# Altium footprint library SpecialisedSensor.PcbLib: 14 footprints
Each footprint in its own frame and in the unit in brackets; x right, y up, seen from the top. Pads: shape width x height; smd on the part's side, far side on the other; paste and mask are expansions set on the pad; w line width, h text height; cw(c..) or ccw(c..) is an arc to the next point about the centre after c.
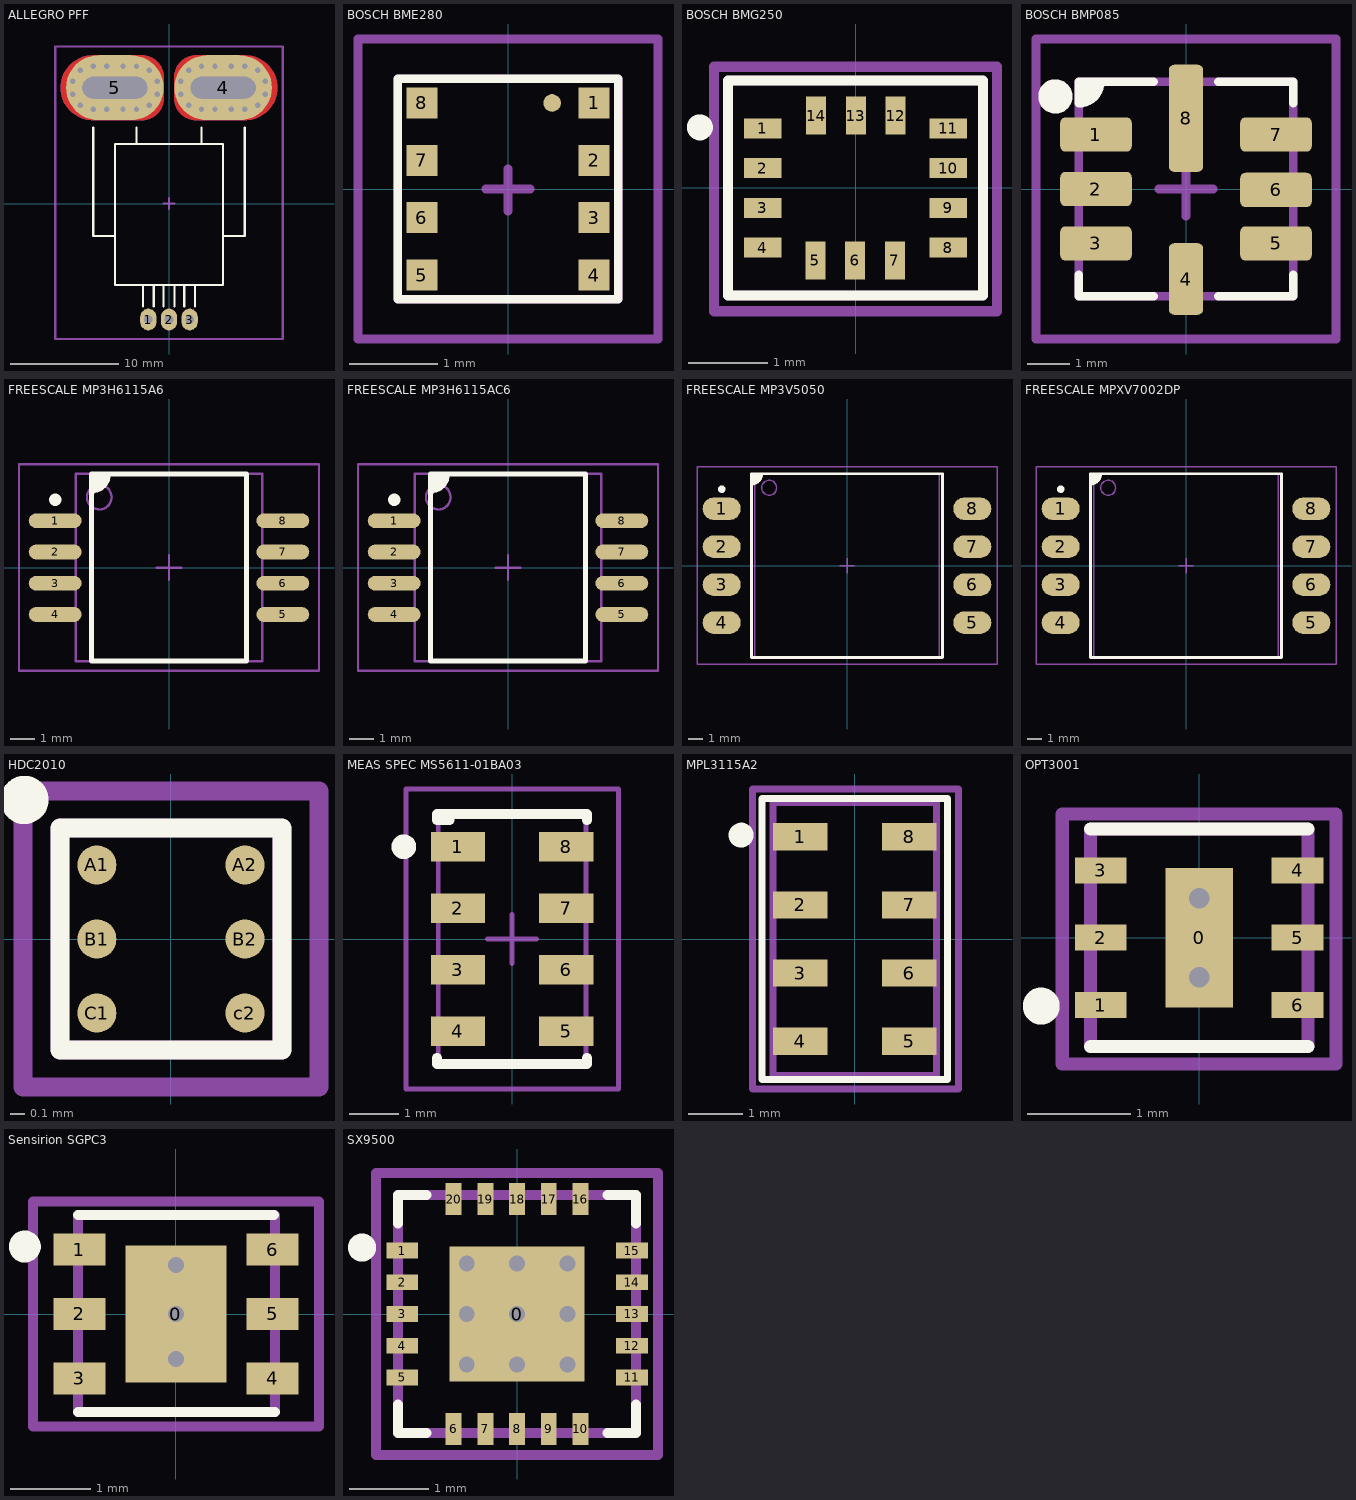
[diagram p0: the footprints below, top view; thin cyan lines are the x and y axes]

## ALLEGRO PFF [mm]
height 7
pads (5):
  oval 1.5x2 hole 0.8: 1(-1.91,-10.7) 2(0,-10.7) 3(1.91,-10.7)
  oval 9x6 hole 2 slot 6 at 0 deg: 4(5,10.7) 5(-5,10.7)
via 5.75,8.7 diameter 0.9 hole 0.5
via 4.25,8.7 diameter 0.9 hole 0.5
via 4.25,12.7 diameter 0.9 hole 0.5
via 7,12.7 diameter 0.9 hole 0.5
via 8.176,12.318 diameter 0.9 hole 0.5
via 8.902,11.318 diameter 0.9 hole 0.5
via 8.902,10.082 diameter 0.9 hole 0.5
via 8.176,9.082 diameter 0.9 hole 0.5
via 7,8.7 diameter 0.9 hole 0.5
via 3,8.7 diameter 0.9 hole 0.5
via 1.824,9.082 diameter 0.9 hole 0.5
via 1.098,10.082 diameter 0.9 hole 0.5
via 1.098,11.318 diameter 0.9 hole 0.5
via 1.824,12.318 diameter 0.9 hole 0.5
via 3,12.7 diameter 0.9 hole 0.5
via 5.75,12.7 diameter 0.9 hole 0.5
via -4.25,8.7 diameter 0.9 hole 0.5
via -5.75,8.7 diameter 0.9 hole 0.5
via -5.75,12.7 diameter 0.9 hole 0.5
via -3,12.7 diameter 0.9 hole 0.5
via -1.824,12.318 diameter 0.9 hole 0.5
via -1.098,11.318 diameter 0.9 hole 0.5
via -1.098,10.082 diameter 0.9 hole 0.5
via -1.824,9.082 diameter 0.9 hole 0.5
via -3,8.7 diameter 0.9 hole 0.5
via -7,8.7 diameter 0.9 hole 0.5
via -8.176,9.082 diameter 0.9 hole 0.5
via -8.902,10.082 diameter 0.9 hole 0.5
via -8.902,11.318 diameter 0.9 hole 0.5
via -8.176,12.318 diameter 0.9 hole 0.5
via -7,12.7 diameter 0.9 hole 0.5
via -4.25,12.7 diameter 0.9 hole 0.5
Top Layer:
  region: -7,13.7 -7.197,13.7 -7.587,13.649 -7.966,13.547 -8.33,13.396 -8.67,13.2 -8.982,12.96 -9.26,12.682 -9.5,12.37 -9.696,12.03 -9.847,11.666 -9.949,11.287 -10,10.897 -10,10.7 -10,10.503 -9.949,10.113 -9.847,9.734 -9.696,9.37 -9.5,9.03 -9.26,8.718 -8.982,8.44 -8.67,8.2 -8.33,8.004 -7.966,7.853 -7.587,7.751 -7.197,7.7 -7,7.7 -2.5,7.7 -2.303,7.7 -1.917,7.777 -1.553,7.928 -1.225,8.146 -0.946,8.425 -0.728,8.753 -0.577,9.117 -0.5,9.503 -0.5,9.7 -0.5,11.7 -0.5,11.897 -0.577,12.283 -0.728,12.647 -0.946,12.975 -1.225,13.254 -1.553,13.472 -1.917,13.623 -2.303,13.7 -2.5,13.7
  region: 7,13.7 7.197,13.7 7.587,13.649 7.966,13.547 8.33,13.396 8.67,13.2 8.982,12.96 9.26,12.682 9.5,12.37 9.696,12.03 9.847,11.666 9.949,11.287 10,10.897 10,10.7 10,10.503 9.949,10.113 9.847,9.734 9.696,9.37 9.5,9.03 9.26,8.718 8.982,8.44 8.67,8.2 8.33,8.004 7.966,7.853 7.587,7.751 7.197,7.7 7,7.7 2.5,7.7 2.303,7.7 1.917,7.777 1.553,7.928 1.225,8.146 0.946,8.425 0.728,8.753 0.577,9.117 0.5,9.503 0.5,9.7 0.5,11.7 0.5,11.897 0.577,12.283 0.728,12.647 0.946,12.975 1.225,13.254 1.553,13.472 1.917,13.623 2.303,13.7 2.5,13.7
Bottom Layer:
  region: -7,13.7 -7.197,13.7 -7.587,13.649 -7.966,13.547 -8.33,13.396 -8.67,13.2 -8.982,12.96 -9.26,12.682 -9.5,12.37 -9.696,12.03 -9.847,11.666 -9.949,11.287 -10,10.897 -10,10.7 -10,10.503 -9.949,10.113 -9.847,9.734 -9.696,9.37 -9.5,9.03 -9.26,8.718 -8.982,8.44 -8.67,8.2 -8.33,8.004 -7.966,7.853 -7.587,7.751 -7.197,7.7 -7,7.7 -2.5,7.7 -2.303,7.7 -1.917,7.777 -1.553,7.928 -1.225,8.146 -0.946,8.425 -0.728,8.753 -0.577,9.117 -0.5,9.503 -0.5,9.7 -0.5,11.7 -0.5,11.897 -0.577,12.283 -0.728,12.647 -0.946,12.975 -1.225,13.254 -1.553,13.472 -1.917,13.623 -2.303,13.7 -2.5,13.7
  region: 7,13.7 7.197,13.7 7.587,13.649 7.966,13.547 8.33,13.396 8.67,13.2 8.982,12.96 9.26,12.682 9.5,12.37 9.696,12.03 9.847,11.666 9.949,11.287 10,10.897 10,10.7 10,10.503 9.949,10.113 9.847,9.734 9.696,9.37 9.5,9.03 9.26,8.718 8.982,8.44 8.67,8.2 8.33,8.004 7.966,7.853 7.587,7.751 7.197,7.7 7,7.7 2.5,7.7 2.303,7.7 1.917,7.777 1.553,7.928 1.225,8.146 0.946,8.425 0.728,8.753 0.577,9.117 0.5,9.503 0.5,9.7 0.5,11.7 0.5,11.897 0.577,12.283 0.728,12.647 0.946,12.975 1.225,13.254 1.553,13.472 1.917,13.623 2.303,13.7 2.5,13.7
Top Overlay:
  lines w0.2: -7,7 -7,-3 -5,-3 ; -3,5.5 -3,7 ; -2.41,-9.5 -2.41,-7.5 ; -1.41,-9.5 -1.41,-7.5 ; -0.5,-9.5 -0.5,-7.5 ; 0.5,-9.5 0.5,-7.5 ; 1.41,-9.5 1.41,-7.5 ; 2.41,-9.5 2.41,-7.5 ; 3,5.5 3,7 ; 5,-3 7,-3 7,7 ; -5,-7.5 5,-7.5 5,5.5 -5,5.5 -5,-7.5
Mechanical 15:
  lines w0.2: -0.5,0 0.5,0 ; 0,-0.5 0,0.5 ; -10.5,-12.5 -10.5,14.5 10.5,14.5 10.5,-12.5 -10.5,-12.5
3D body "Allegro PFF.STEP": height 7, standoff -3.52, extent -7,-11.086 7,11.5

## BOSCH BME280 [mm] "Bosch BME280 digital pressure sensor"
height 0.93
pads (9):
  rect 0.35x0.35 smd: 1(0.975,0.975) 2(0.975,0.325) 3(0.975,-0.325) 4(0.975,-0.975) 5(-0.975,-0.975) 6(-0.975,-0.325) 7(-0.975,0.325) 8(-0.975,0.975)
  round 0.2 smd: ""(0.5,0.975)
Top Overlay:
  lines w0.1: -1.25,-1.25 1.25,-1.25 1.25,1.25 -1.25,1.25 -1.25,-1.25
Mechanical 13:
  lines w0.1: -1.25,-1.25 -1.25,1.25 1.25,1.25 1.25,-1.25 -1.25,-1.25
Mechanical 15:
  lines w0.1: -0.25,0 0.25,0 ; 0,-0.25 0,0.225 ; -1.7,-1.7 -1.7,1.7 1.7,1.7 1.7,-1.7 -1.7,-1.7
3D body "User Library-Bosch_BME280 (1).step": height 0.93, standoff 0, extent -1.25,-1.25 1.25,1.25

## BOSCH BMG250 [mm]
pads (14):
  rect 0.475x0.25 smd mask+0.051: 1(-1.165,0.75) 2(-1.165,0.25) 3(-1.165,-0.25) 4(-1.165,-0.75) 8(1.165,-0.75) 9(1.165,-0.25) 10(1.165,0.25) 11(1.165,0.75)
  rect 0.25x0.475 smd mask+0.051: 5(-0.505,-0.91) 6(-0.005,-0.91) 7(0.495,-0.91) 12(0.505,0.91) 13(0.005,0.91) 14(-0.495,0.91)
Top Overlay:
  lines w0.127: -1.6,-1.35 -1.6,1.35 1.604,1.35 1.604,-1.35 -1.6,-1.35
  lines w0.254: -1.927,0.784 ccw(c-1.956,0.762) -1.92,0.762
Mechanical 13:
  lines w0.127: -1.6,-1.35 -1.6,1.35 1.604,1.35 1.604,-1.35 -1.6,-1.35
Mechanical 15:
  lines w0.127: -1.778,-1.549 1.778,-1.549 1.778,1.524 -1.778,1.524 -1.778,-1.549

## BOSCH BMP085 [mm] "Bosch BMP085 digital pressure sensor"
height 1.2
pads (8):
  rrect30% 1.67x0.8 smd: 1(-2.1,1.27) 2(-2.1,0) 3(-2.1,-1.27) 5(2.1,-1.27) 6(2.1,-0.02) 7(2.1,1.27)
  rrect30% 0.8x1.67 smd: 4(0,-2.1)
  rrect30% 0.8x2.5 smd: 8(0,1.65)
Top Overlay:
  circle w0.4: c-3.048,2.159 r0.2
  region: -2.5,2.5 -2.032,2.5 -2.032,2.286 -2.286,2.032 -2.5,2.032
  lines w0.2: -2.5,-2 -2.5,-2.5 -0.75,-2.5 ; -2,2.5 cw(c-2.5,2.5) -2.5,2 -2.5,2.5 -0.75,2.5 ; 0.75,-2.5 2.5,-2.5 2.5,-2 ; 0.75,2.5 2.5,2.5 2.5,2
Mechanical 1:
  lines w0.2: -2.5,-2.5 -2.5,2.5 2.5,2.5 2.5,-2.5 -2.5,-2.5
Mechanical 15:
  lines w0.2: -0.635,0 0.635,0 ; 0,-0.635 0,0.635 ; -3.5,-3.5 3.5,-3.5 3.5,3.5 -3.5,3.5 -3.5,-3.5
3D body "BMP085.STEP": height 1.2, standoff 0, extent -2.5,-2.5 2.5,2.5

## FREESCALE MP3H6115A6 [mm] "SOIC, 8-Leads, Body 7.6x7.6mm (max), Pitch 1.27mm, IPC Medium Density"
height 4.191
pads (8):
  oval 2.15x0.6 smd: 1(-4.625,1.905) 2(-4.625,0.635) 3(-4.625,-0.635) 4(-4.625,-1.905) 5(4.625,-1.905) 6(4.625,-0.635) 7(4.625,0.635) 8(4.625,1.905)
Top Overlay:
  circle w0.25: c-4.625,2.755 r0.125
  region: -2.465,3.796 -3.146,3.796 -3.15,3.8 -3.15,3.111 -2.973,3.111 -2.465,3.619
  lines w0.2: -3.15,3.111 ccw(c-3.15,3.796) -2.465,3.796 ; -3.15,-3.8 3.15,-3.8 3.15,3.8 -3.15,3.8 -3.15,-3.8
Mechanical 13:
  circle w0.1: c-2.835,2.86 r0.5
  lines w0.1: -3.785,-3.81 3.785,-3.81 3.785,3.81 -3.785,3.81 -3.785,-3.81
Mechanical 15:
  lines w0.1: -0.5,0 0.5,0 ; 0,-0.5 0,0.5 ; -6.096,-4.191 6.096,-4.191 6.096,4.191 -6.096,4.191 -6.096,-4.191
3D body "MP3H6115A.STEP": height 4.04, standoff -0.05, extent -5.234,-3.689 5.233,3.689

## FREESCALE MP3H6115AC6 [mm] "SOIC, 8-Leads, Body 7.6x7.6mm (max), Pitch 1.27mm, IPC Medium Density"
height 4.191
pads (8):
  oval 2.15x0.6 smd: 1(-4.625,1.905) 2(-4.625,0.635) 3(-4.625,-0.635) 4(-4.625,-1.905) 5(4.625,-1.905) 6(4.625,-0.635) 7(4.625,0.635) 8(4.625,1.905)
Top Overlay:
  circle w0.25: c-4.625,2.755 r0.125
  region: -2.465,3.796 -3.146,3.796 -3.15,3.8 -3.15,3.111 -2.973,3.111 -2.465,3.619
  lines w0.2: -3.15,3.111 ccw(c-3.15,3.796) -2.465,3.796 ; -3.15,-3.8 3.15,-3.8 3.15,3.8 -3.15,3.8 -3.15,-3.8
Mechanical 13:
  circle w0.1: c-2.835,2.86 r0.5
  lines w0.1: -3.785,-3.81 3.785,-3.81 3.785,3.81 -3.785,3.81 -3.785,-3.81
Mechanical 15:
  lines w0.1: -0.5,0 0.5,0 ; 0,-0.5 0,0.5 ; -6.096,-4.191 6.096,-4.191 6.096,4.191 -6.096,4.191 -6.096,-4.191
3D body "MP3H6115AC.STEP": height 9.65, standoff 0, extent -5.229,-4.255 5.229,4.254

## FREESCALE MP3V5050 [mm] "SOP, 8-Leads, Body 12.3x12.3mm (max), Pitch 2.54mm, IPC Medium Density"
height 9.906
pads (8):
  oval 2.54x1.52 smd: 1(-8.38,3.81) 2(-8.38,1.27) 3(-8.38,-1.27) 4(-8.38,-3.81) 5(8.38,-3.81) 6(8.38,-1.27) 7(8.38,1.27) 8(8.38,3.81)
Top Overlay:
  circle w0.25: c-8.38,5.12 r0.125
  region: -5.715,6.146 -6.396,6.146 -6.4,6.15 -6.4,5.461 -6.223,5.461 -5.715,5.969
  lines w0.2: -6.4,5.461 ccw(c-6.4,6.146) -5.715,6.146 ; -6.4,-6.15 6.4,-6.15 6.4,6.15 -6.4,6.15 -6.4,-6.15
Mechanical 13:
  circle w0.1: c-5.21,5.21 r0.5
  lines w0.1: -6.16,-6.16 6.16,-6.16 6.16,6.16 -6.16,6.16 -6.16,-6.16
Mechanical 15:
  lines w0.1: -0.5,0 0.5,0 ; 0,-0.5 0,0.5 ; -10.033,-6.604 10.033,-6.604 10.033,6.604 -10.033,6.604 -10.033,-6.604
3D body "Freescale 98ASA99255D Case.STEP": height 9.93, standoff -0.23, extent -8.781,-6.033 8.78,12.382

## FREESCALE MPXV7002DP [mm] "SOP, 8-Leads, Body 12.3x12.3mm (max), Pitch 2.54mm, IPC Medium Density"
height 9.906
pads (8):
  oval 2.54x1.52 smd: 1(-8.38,3.81) 2(-8.38,1.27) 3(-8.38,-1.27) 4(-8.38,-3.81) 5(8.38,-3.81) 6(8.38,-1.27) 7(8.38,1.27) 8(8.38,3.81)
Top Overlay:
  circle w0.25: c-8.38,5.12 r0.125
  region: -5.715,6.146 -6.396,6.146 -6.4,6.15 -6.4,5.461 -6.223,5.461 -5.715,5.969
  lines w0.2: -6.4,5.461 ccw(c-6.4,6.146) -5.715,6.146 ; -6.4,-6.15 -6.4,6.15 6.4,6.15 6.4,-6.15 -6.4,-6.15
Mechanical 13:
  circle w0.1: c-5.21,5.21 r0.5
  lines w0.1: -6.16,-6.16 -6.16,6.16 6.16,6.16 6.16,-6.16 -6.16,-6.16
Mechanical 15:
  lines w0.1: -0.5,0 0.5,0 ; 0,-0.5 0,0.5 ; -10.033,-6.604 -10.033,6.604 10.033,6.604 10.033,-6.604 -10.033,-6.604
3D body "MPXV7002DP.STEP": height 9.91, standoff -0.25, extent -8.763,-6.033 8.763,12.128

## HDC2010 [mm]
pads (6):
  round 0.263 smd mask+0.051: A1(-0.5,0.5) A2(0.5,0.5) B1(-0.5,0) B2(0.5,0) C1(-0.5,-0.5) c2(0.5,-0.5)
Top Overlay:
  circle w0.254: c-0.991,0.94 r0.036
  lines w0.127: -0.75,-0.75 -0.75,0.75 0.75,0.75 0.75,-0.75 -0.75,-0.75
Mechanical 13:
  lines w0.127: -0.75,-0.75 0.75,-0.75 0.75,0.75 -0.75,0.75 -0.75,-0.75
Mechanical 15:
  lines w0.127: -1,-1 1,-1 1,1 -1,1 -1,-1

## MEAS SPEC MS5611-01BA03 [mm] "LCC, 8-Pins, Body 3.0x5.1mm (max), Pitch 1.25mm, IPC Medium Density"
height 1
pads (8):
  rect 1.1x0.6 smd: 1(-1.1,1.875) 2(-1.1,0.625) 3(-1.1,-0.625) 4(-1.1,-1.875) 5(1.1,-1.875) 6(1.1,-0.625) 7(1.1,0.625) 8(1.1,1.875)
Top Overlay:
  circle w0.25: c-2.2,1.875 r0.125
  lines w0.2: -1.524,-2.413 -1.524,-2.54 1.524,-2.54 1.524,-2.413 ; -1.27,2.54 -1.27,2.413 -1.524,2.413 -1.524,2.54 1.524,2.54 1.524,2.413
Mechanical 13:
  lines w0.1: -1.513,2.5 1.5,2.5 1.5,-2.5 -1.5,-2.5 -1.5,2.512 -1.513,2.5
Mechanical 15:
  lines w0.1: -0.5,0 0.5,0 ; 0,-0.5 0,0.5 ; -2.159,-3.048 -2.159,3.048 2.159,3.048 2.159,-3.048 -2.159,-3.048
3D body "MS5611.STEP": height 1, standoff 0, extent -1.5,-2.5 1.5,2.5

## MPL3115A2 [mm]
pads (8):
  rect 1x0.5 smd mask+0.051: 1(-1,1.875) 2(-1,0.625) 3(-1,-0.625) 4(-1,-1.875) 5(1,-1.875) 6(1,-0.625) 7(1,0.625) 8(1,1.875)
Top Overlay:
  circle w0.254: c-2.083,1.905 r0.1
  lines w0.127: -1.7,-2.576 1.7,-2.576 ; -1.7,-2.565 -1.7,2.576 1.7,2.576 ; 1.7,-2.575 1.7,2.565
Mechanical 1:
  lines w0.127: -1.5,-2.5 1.5,-2.5 1.5,2.5 -1.5,2.5 -1.5,-2.5
Mechanical 15:
  lines w0.127: -1.875,-2.75 1.9,-2.75 1.9,2.75 -1.875,2.75 -1.875,-2.75
3D body "User Library-MPL3115A2.step": height 1.1, standoff 0, extent -1.5,-2.5 1.5,2.5

## OPT3001 [mm]
pads (7):
  rect 0.65x1.35 smd mask+0.051: 0(0,0)
  rect 0.5x0.25 smd mask+0.051: 1(-0.95,-0.65) 2(-0.95,0) 3(-0.95,0.65) 4(0.95,0.65) 5(0.95,0) 6(0.95,-0.65)
via 0,0.381 diameter 0.4 hole 0.2
via 0,-0.381 diameter 0.4 hole 0.2
Top Overlay:
  circle w0.254: c-1.524,-0.66 r0.051
  lines w0.127: -1.05,-1.05 1.05,-1.05 ; -1.05,1.05 1.05,1.05
Mechanical 13:
  lines w0.127: -1.05,-1.05 1.05,-1.05 1.05,1.05 -1.05,1.05 -1.05,-1.05
Mechanical 15:
  lines w0.127: -1.321,-1.219 1.321,-1.219 1.321,1.194 -1.321,1.194 -1.321,-1.219

## Sensirion SGPC3 [mm]
pads (7):
  rect 1.25x1.7 smd mask+0.051: 0(0,0)
  rect 0.65x0.4 smd mask+0.051: 1(-1.2,0.8) 2(-1.2,0) 3(-1.2,-0.8) 4(1.2,-0.8) 5(1.2,0) 6(1.2,0.8)
via 0,-0.559 diameter 0.4 hole 0.2
via 0,0.61 diameter 0.4 hole 0.2
via 0,0 diameter 0.4 hole 0.2
Top Overlay:
  circle w0.254: c-1.88,0.838 r0.072
  lines w0.127: -1.219,-1.219 1.231,-1.219 ; -1.219,1.231 1.219,1.231
Mechanical 13:
  lines w0.127: 1.219,1.231 -1.219,1.231 -1.219,-1.219 1.231,-1.219 1.231,1.231
Mechanical 15:
  lines w0.127: 1.778,1.016 1.778,1.397 ; 1.778,1.397 1.778,-1.397 -1.778,-1.397 -1.778,1.397 1.778,1.397

## SX9500 [mm]
pads (21):
  rect 1.7x1.7 smd mask+0.051: 0(0,0)
  rect 0.4x0.2 smd mask+0.051: 1(-1.45,0.8) 2(-1.45,0.4) 3(-1.45,0) 4(-1.45,-0.4) 5(-1.45,-0.8) 11(1.45,-0.8) 12(1.45,-0.4) 13(1.45,0) 14(1.45,0.4) 15(1.45,0.8)
  rect 0.2x0.4 smd mask+0.051: 6(-0.8,-1.45) 7(-0.4,-1.45) 8(0,-1.45) 9(0.4,-1.45) 10(0.8,-1.45) 16(0.8,1.45) 17(0.4,1.45) 18(0,1.45) 19(-0.4,1.45) 20(-0.8,1.45)
via -0.635,0.635 diameter 0.4 hole 0.2
via 0,0.635 diameter 0.4 hole 0.2
via 0.635,0.635 diameter 0.4 hole 0.2
via 0,0 diameter 0.4 hole 0.2
via 0.635,0 diameter 0.4 hole 0.2
via -0.635,0 diameter 0.4 hole 0.2
via -0.635,-0.635 diameter 0.4 hole 0.2
via 0,-0.635 diameter 0.4 hole 0.2
via 0.635,-0.635 diameter 0.4 hole 0.2
Top Overlay:
  circle w0.254: c-1.956,0.838 r0.051
  lines w0.127: -1.5,-1.143 -1.5,-1.5 -1.143,-1.5 ; -1.5,1.143 -1.5,1.5 -1.143,1.5 ; 1.143,-1.5 1.5,-1.5 1.5,-1.143 ; 1.143,1.5 1.5,1.5 1.5,1.143
Mechanical 13:
  lines w0.127: -1.5,-1.5 1.5,-1.5 1.5,1.5 -1.5,1.5 -1.5,-1.5
Mechanical 15:
  lines w0.127: -1.778,-1.778 -1.778,1.778 1.778,1.778 1.778,-1.778 -1.778,-1.778